# EAGLE library part AS-ITM-00392 (library tinycircuits)
IC MOTOR DRIVER PAR 24VQFN
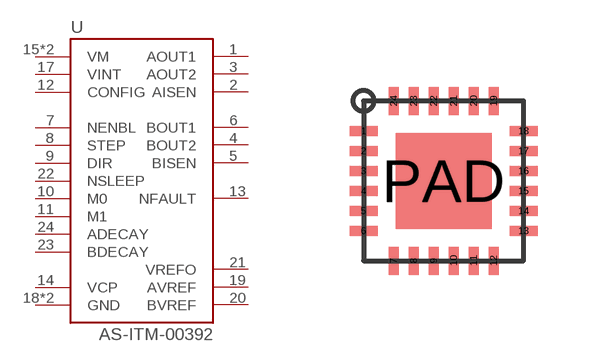
[diagram p160: symbol with the pads of VQFN-24_4X4; footprint VQFN-24_4X4]

Designator prefix U

## AS-ITM-00392 (PARTNO: AS-ITM-00392; VALUE: DRV8834)  [VQFN-24_4X4]
1  AOUT1
2  AISEN
3  AOUT2
4  BOUT2
5  BISEN
6  BOUT1
7  NENBL
8  STEP
9  DIR
10  M0
11  M1
12  CONFIG
13  NFAULT
14  VCP
15  VM
16  VM
17  VINT
18  GND
19  AVREF
20  BVREF
21  VREFO
22  NSLEEP
23  BDECAY
24  ADECAY
PAD  GND

## Footprint VQFN-24_4X4 (pad centres in mm)
smd 0.7 x 0.25: 1 -2,1.25; 2 -2,0.75; 3 -2,0.25; 4 -2,-0.25; 5 -2,-0.75; 6 -2,-1.25; 13 2,-1.25; 14 2,-0.75; 15 2,-0.25; 16 2,0.25; 17 2,0.75; 18 2,1.25
smd 0.25 x 0.7: 7 -1.25,-2; 8 -0.75,-2; 9 -0.25,-2; 10 0.25,-2; 11 0.75,-2; 12 1.25,-2; 19 1.25,2; 20 0.75,2; 21 0.25,2; 22 -0.25,2; 23 -0.75,2; 24 -1.25,2
smd 2.4 x 2.4: PAD 0,0